# Altium footprint library mainboard.PcbLib: 25 footprints (part 2 of 2)
Each footprint in its own frame and in the unit in brackets; x right, y up, seen from the top. Pads: shape width x height; smd on the part's side, far side on the other; paste and mask are expansions set on the pad; w line width, h text height; cw(c..) or ccw(c..) is an arc to the next point about the centre after c.
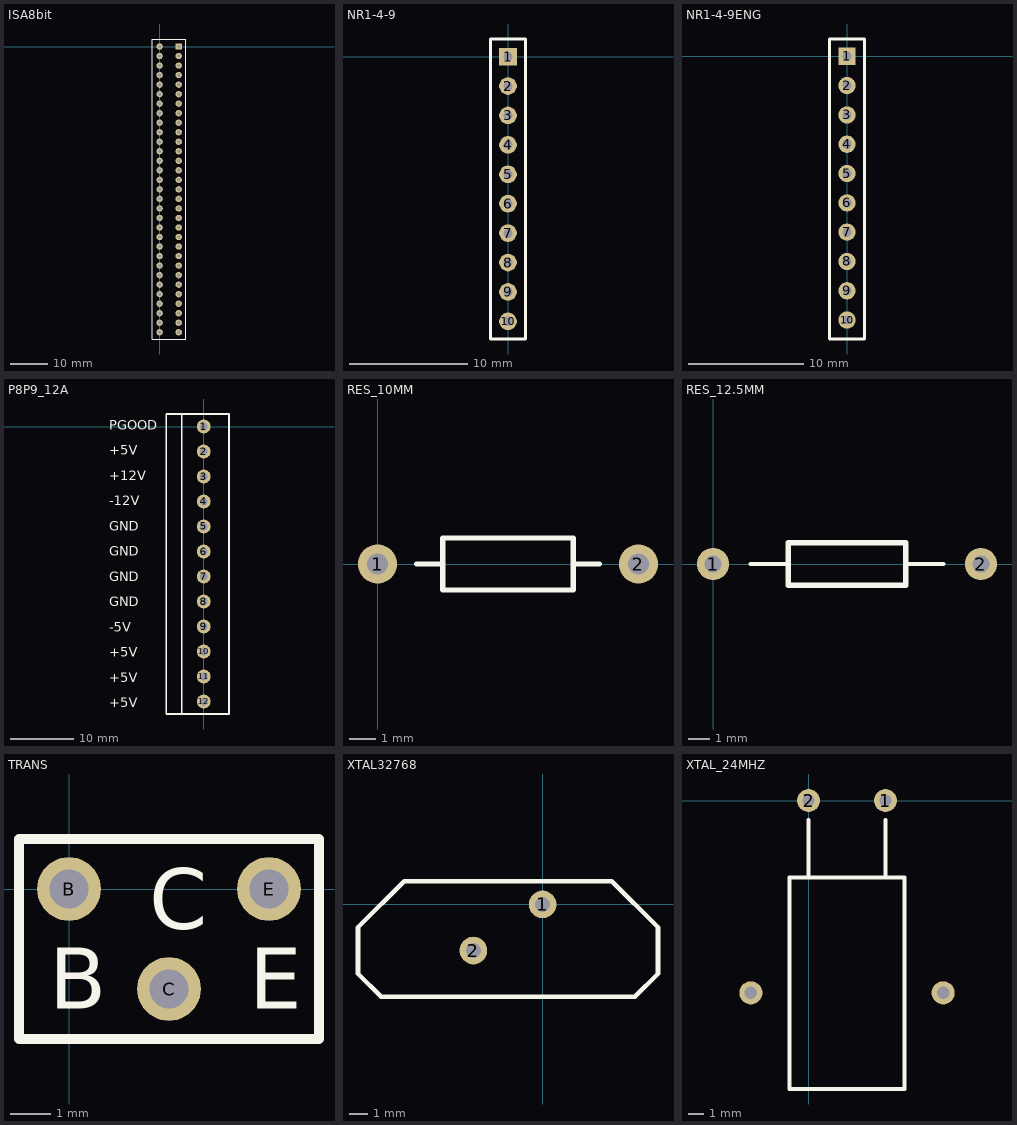
[diagram p1: the footprints below, top view; thin cyan lines are the x and y axes]

## ISA8bit [mm]
pads (62):
  rect 1.7x1.7 hole 0.9: 1(5.08,0)
  round 1.7 hole 0.9: 2(5.08,-2.54) 3(5.08,-5.08) 4(5.08,-7.62) 5(5.08,-10.16) 6(5.08,-12.7) 7(5.08,-15.24) 8(5.08,-17.78) 9(5.08,-20.32) 10(5.08,-22.86) 11(5.08,-25.4) 12(5.08,-27.94) 13(5.08,-30.48) 14(5.08,-33.02) 15(5.08,-35.56) 16(5.08,-38.1) 17(5.08,-40.64) 18(5.08,-43.18) 19(5.08,-45.72) 20(5.08,-48.26) 21(5.08,-50.8) 22(5.08,-53.34) 23(5.08,-55.88) 24(5.08,-58.42) 25(5.08,-60.96) 26(5.08,-63.5) 27(5.08,-66.04) 28(5.08,-68.58) 29(5.08,-71.12) 30(5.08,-73.66) 31(5.08,-76.2) 32(0,0) 33(0,-2.54) 34(0,-5.08) 35(0,-7.62) 36(0,-10.16) 37(0,-12.7) 38(0,-15.24) 39(0,-17.78) 40(0,-20.32) 41(0,-22.86) 42(0,-25.4) 43(0,-27.94) 44(0,-30.48) 45(0,-33.02) 46(0,-35.56) 47(0,-38.1) 48(0,-40.64) 49(0,-43.18) 50(0,-45.72) 51(0,-48.26) 52(0,-50.8) 53(0,-53.34) 54(0,-55.88) 55(0,-58.42) 56(0,-60.96) 57(0,-63.5) 58(0,-66.04) 59(0,-68.58) 60(0,-71.12) 61(0,-73.66) 62(0,-76.2)
Top Overlay:
  lines w0.254: -2,-78 7,-78 7,2 -2,2 -2,-78
Mechanical 13:
  text "ISA-8 SLOT" at 2,-33 h1.52

## NR1-4-9 [mm]
pads (10):
  rect 1.5x1.5 hole 0.8: 1(0,0)
  round 1.5 hole 0.8: 2(0,-2.5) 3(0,-5) 4(0,-7.5) 5(0,-10) 6(0,-12.5) 7(0,-15) 8(0,-17.5) 9(0,-20) 10(0,-22.5)
Top Overlay:
  lines w0.254: -1.5,-24 1.5,-24 1.5,1.5 -1.5,1.5 -1.5,-24

## NR1-4-9ENG [mm]
pads (10):
  rect 1.5x1.5 hole 0.8: 1(0,0)
  round 1.5 hole 0.8: 2(0,-2.54) 3(0,-5.08) 4(0,-7.62) 5(0,-10.16) 6(0,-12.7) 7(0,-15.24) 8(0,-17.78) 9(0,-20.32) 10(0,-22.86)
Top Overlay:
  lines w0.254: -1.5,-24.5 1.5,-24.5 1.5,1.5 -1.5,1.5 -1.5,-24.5

## P8P9_12A [mm]
pads (12):
  round 2.2 hole 1.2: 1(0,0) 2(0,-3.96) 3(0,-7.92) 4(0,-11.88) 5(0,-15.84) 6(0,-19.8) 7(0,-23.76) 8(0,-27.72) 9(0,-31.68) 10(0,-35.64) 11(0,-39.6) 12(0,-43.56)
Top Overlay:
  lines w0.254: -3.5,-45.54 -3.5,1.98 ; -5.94,-45.54 -5.94,1.98 4,1.98 4,-45.54 -5.94,-45.54
  text "PGOOD" at -15,-0.5 h1.52
  text "+5V" at -15,-4.5 h1.52
  text "+12V" at -15,-8.5 h1.52
  text "-12V" at -15,-12.5 h1.52
  text "GND" at -15,-16.5 h1.52
  text "GND" at -15,-20.5 h1.52
  text "GND" at -15,-24.5 h1.52
  text "GND" at -15,-28.5 h1.52
  text "-5V" at -15,-32.5 h1.52
  text "+5V" at -15,-36.5 h1.52
  text "+5V" at -15,-40.5 h1.52
  text "+5V" at -15,-44.5 h1.52

## RES_10MM [mm]
pads (2):
  round 1.5 hole 0.8: 1(0,0) 2(10,0)
Top Overlay:
  lines w0.2: 1.5,0 2.5,0 ; 7.5,0 8.5,0 ; 2.5,0 2.5,-1 7.5,-1 7.5,1 2.5,1 2.5,0
3D body "res10.STEP": height 3.17, standoff -1.63, extent -0.31,-1.3 10.19,1.3

## RES_12.5MM [mm]
pads (2):
  round 1.5 hole 0.8: 1(0,0) 2(12.5,0)
Top Overlay:
  lines w0.2: 1.75,0 3.5,0 ; 9,0 10.75,0
  lines w0.254: 3.5,-1 3.5,1 9,1 9,-1 3.5,-1
3D body "res12_7.STEP": height 4.5, standoff -2, extent -0.37,-1.75 12.87,1.75

## TRANS [mm]
pads (3):
  round 1.6 hole 0.98: B(0,0) C(2.5,-2.5) E(5,0)
Top Overlay:
  lines w0.254: -1.25,-3.75 -1.25,1.25 6.25,1.25 6.25,-3.75 -1.25,-3.75
  text "B" at -0.5,-3 h1.52
  text "C" at 2,-1 h1.52
  text "E" at 4.5,-3 h1.52
3D body "trans.STEP": height 8.81, standoff -2.11, extent -0.232,-2.286 5.305,0

## XTAL32768 [mm]
pads (2):
  round 1.5 hole 0.8: 1(0,0) 2(-3.75,-2.5)
Top Overlay:
  lines w0.254: -10,-3.75 -8.75,-5 5,-5 6.25,-3.75 6.25,-1.25 3.75,1.25 -7.5,1.25 -10,-1.25 -10,-3.75

## XTAL_24MHZ [mm]
pads (4):
  round 1.5 hole 0.8: 1(5,0) 2(0,0) ""(-3.75,-12.5) ""(8.75,-12.5)
Top Overlay:
  lines w0.254: 0,-5 0,-1.25 ; 5,-5 5,-1.25 ; -1.25,-18.75 6.25,-18.75 6.25,-5 -1.25,-5 -1.25,-18.75
Mechanical 13:
  text ".Comment" at 2,-6.5 h1.52
3D body: height 2, standoff 0.2, extent -1.5,-18.5 6.5,-5